# EAGLE library part SIG60 (library SIG60_schematic)
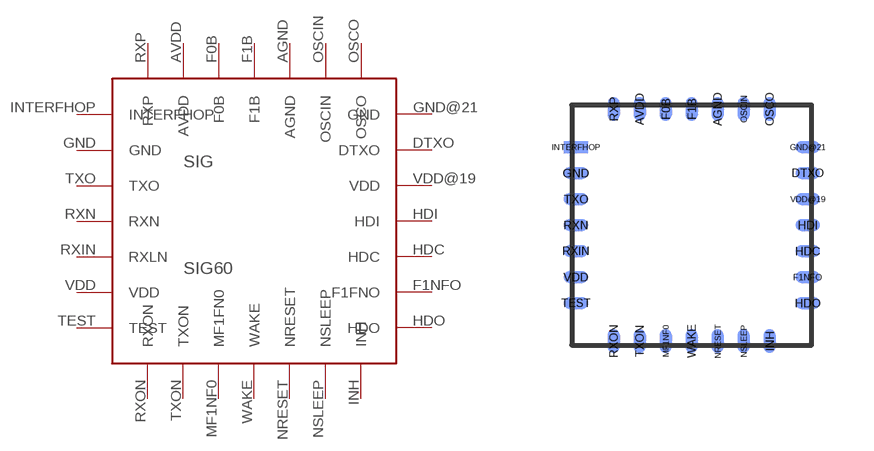
[diagram p0: symbol with the pads of SIG60; footprint SIG60]

Designator prefix SIG

## SIG60  [SIG60]
AGND  AGND
AVDD  AVDD
DTXO  DTXO
F0B  F0B
F1B  F1B
F1NFO  F1FNO
GND  GND
GND@21  GND
HDC  HDC
HDI  HDI
HDO  HDO
INH  INH
INTERFHOP  INTERFHOP
MF1NF0  MF1FN0
NRESET  NRESET
NSLEEP  NSLEEP
OSCIN  OSCIN
OSCO  OSCO
RXIN  RXLN
RXN  RXN
RXON  RXON
RXP  RXP
TEST  TEST
TXO  TXO
TXON  TXON
VDD  VDD
VDD@19  VDD
WAKE  WAKE

## Footprint SIG60 (pad centres in mm)
smd 0.305 x 0.61 bottom: AGND 3.65,-0.1; AVDD 1.7,-0.1; F0B 2.35,-0.1; F1B 3,-0.1; INH 4.95,-5.9; MF1NF0 2.35,-5.9; NRESET 3.65,-5.9; NSLEEP 4.3,-5.9; OSCIN 4.3,-0.1; OSCO 4.95,-0.1; RXON 1.05,-5.9; RXP 1.05,-0.1; TXON 1.7,-5.9; WAKE 3,-5.9
smd 0.61 x 0.305 bottom: DTXO 5.9,-1.7; F1NFO 5.9,-4.3; GND 0.1,-1.7; GND@21 5.9,-1.05; HDC 5.9,-3.65; HDI 5.9,-3; HDO 5.9,-4.95; INTERFHOP 0.1,-1.05; RXIN 0.1,-3.65; RXN 0.1,-3; TEST 0.1,-4.95; TXO 0.1,-2.35; VDD 0.1,-4.3; VDD@19 5.9,-2.35